# EAGLE library part MICROBUILDER_INA219 (library Tyr V4)
INA219 - I2C Current/Power Monitor Voltage Range: 0-26V Accuracy: 0.5% Temperature: -40°C - 125°C
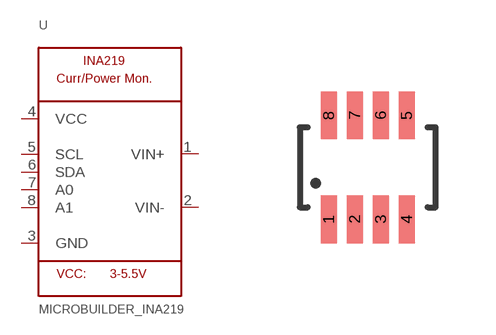
[diagram p3: symbol with the pads of MICROBUILDER_SOT23-8; footprint MICROBUILDER_SOT23-8]

Designator prefix U

## MICROBUILDER_INA219  [MICROBUILDER_SOT23-8]
1  VIN+
2  VIN-
3  GND
4  VCC
5  SCL
6  SDA
7  A0
8  A1

## Footprint MICROBUILDER_SOT23-8 (pad centres in mm)
Source: http://www.ti.com/lit/ml/mpds099c/mpds099c.pdf
smd 0.4 x 1.2: 1 -0.975,-1.3; 2 -0.325,-1.3; 3 0.325,-1.3; 4 0.975,-1.3; 5 0.975,1.3; 6 0.325,1.3; 7 -0.325,1.3; 8 -0.975,1.3